# Altium integrated library VLS6045EX-150M.IntLib: 1 symbol
Pins are listed as number, name and electrical type; pins without a type are passive.

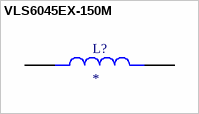
[diagram p0: symbol VLS6045EX-150M]

## VLS6045EX-150M
designator L?
15 ÂµH Shielded Drum Core, Wirewound Inductor 2.5 A 75mOhm Nonstandard; MF: TDK; MP: VLS6045EX-150M; Value: *; SnapEDA_Link: https://www.snapeda.com/parts/VLS6045EX-150M/TDK/view-part/?ref=snap; Availability: In Stock; Price: None; Check_prices: https://www.snapeda.com/parts/VLS6045EX-150M/TDK/view-part/?ref=eda; Purchase-URL: https://pricing.snapeda.com/search/part/VLS6045EX-150M/?ref=eda; Package: NON STANDARD-2 TDK
footprint IND_VLS6045EX-150M
pins: 1, 2